# Altium integrated library vishay.IntLib: 3 symbols
Pins are listed as number, name and electrical type; pins without a type are passive.

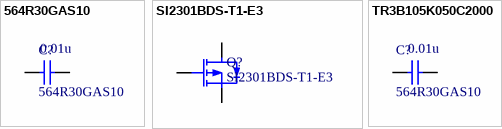
[diagram p0: symbols 564R30GAS10 to TR3B105K050C2000]

## 564R30GAS10
designator C?  value 0.01u
CAP CER 10000PF 3KV Z5U RADIAL; Published: 8-Jun-2000; LatestRevisionDate: 17-Jul-2002; LatestRevisionNote: Re-released for DXP Platform.; PackageReference: RAD-0.3; Publisher: Altium Limited; PackageDescription: Radial Cap, Thru-Hole; 2 Leads; 0.3 in Pin Spacing
simulation model CAP (Capacitor)
signal-integrity model Cap
footprint 564R-Y5U (CAP CER Z5U RADIAL)
pins: 1, 2

## SI2301BDS-T1-E3
designator Q?
P-Channel MOSFET, 20V 2.0A 0.9W
simulation model PMOS (MOSFET-P)
footprint SOT23_N (SOT23, 3-Leads, Body 2.9x1.3mm, Pitch 0.95mm, Lead Span 2.3mm - Reverse Pinning, IPC Medium Density)
pins: 1 G, 2 S, 3 D

## TR3B105K050C2000
designator C?, comment 564R30GAS10  value 0.01u
CAP CER 10000PF 3KV Z5U RADIAL; Published: 8-Jun-2000; LatestRevisionDate: 29-May-2009; LatestRevisionNote: IPC-7351 Footprint Added.; PackageReference: C0805; Publisher: Altium Limited; PackageDescription: Chip Capacitor
footprint 564R-Y5U (CAP CER Z5U RADIAL)
pins: 1, 2
1 alternate drawing of the same symbol